# Altium schematic symbol library RESISTOR.SchLib: 3 symbols
Pins are listed as number, name and electrical type; pins without a type are passive.

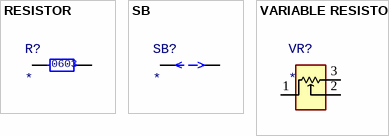
[diagram p0: symbols RESISTOR to VARIABLE RESISTOR]

## RESISTOR
designator R?  Size: 0603
Power Rate: *
pins: 1, 2

## SB
designator SB?
pins: 1, 2

## VARIABLE RESISTOR
designator VR?
pins: 1 a, 2 b, 3 c